# Altium schematic symbol library Infineon Discrete Diode.SchLib: 203 symbols (part 2 of 3)
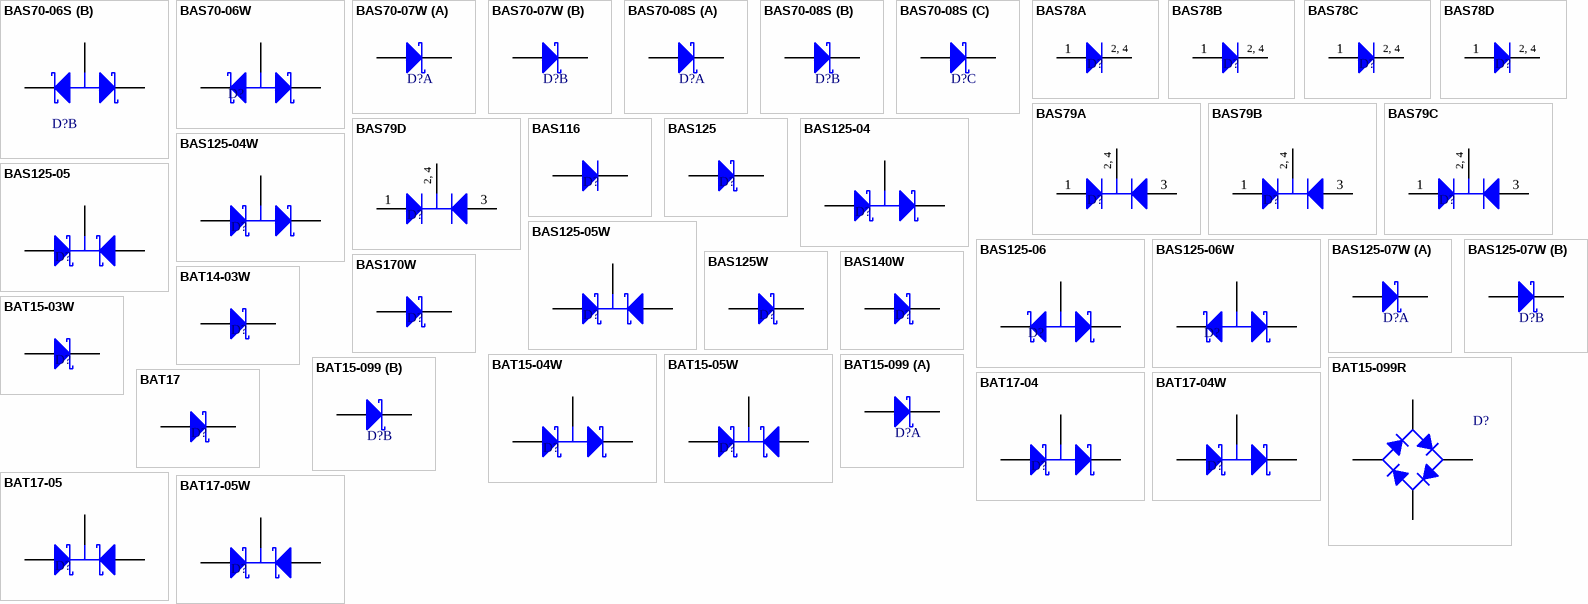
[diagram p7: symbols BAS70-06S to BAT17-05W]

## BAT15-05W
designator D?
Silicon RF Schottky Diode for DBS Mixer Applications up to 12 GHz; Published: 21-Mar-2003; DatasheetDocument: Oct-1999; PackageDocument: Sep-2001; PackageReference: SOT-323; Publisher: Altium Limited; ComponentLink1Description: Manufacturer Link; ComponentLink1URL: http://www.infineon.com/; ComponentLink2Description: Datasheet; ComponentLink2URL: http://www.infineon.com/upload/Document/cmc_upload/documents/009/360/bat15series.pdf
footprint SOT-323 (SOT-323/SC-70; 3 Leads; Body 2.2 x 2.2 mm, inc. leads (LxW max))
simulation model BAT15-05W (SUBCKT)
pins: 1 A1, 2 A2, 3 K

## BAT15-099
designator D?
Silicon Dual RF Schottky Diode for DBS Mixer Applications up to 12GHz; Published: 21-Mar-2003; DatasheetDocument: Oct-1999; PackageDocument: Sep-2000; PackageReference: SOT-143; Publisher: Altium Limited; Code_JEDEC: TO-253-AA; Code_IPC: SOT 143; ComponentLink1Description: Manufacturer Link; ComponentLink1URL: http://www.infineon.com/; ComponentLink2Description: Datasheet; ComponentLink2URL: http://www.infineon.com/upload/Document/cmc_upload/documents/009/361/bat15series_1.pdf
footprint SOT-143 (SOT-143; 4 Leads; Body 3 x 2.6 mm, inc. leads (LxW max))
simulation model BAT15-099 (DIODE)
part A pins: 1 K, 4 A
part B pins: 2 A, 3 K

## BAT15-099R
designator D?
Silicon Crossover Ring Quad RF Schottky Diode; Published: 21-Mar-2003; DatasheetDocument: Oct-1999; PackageDocument: Sep-2000; PackageReference: SOT-143; Publisher: Altium Limited; Code_JEDEC: TO-253-AA; Code_IPC: SOT 143; ComponentLink1Description: Manufacturer Link; ComponentLink1URL: http://www.infineon.com/; ComponentLink2Description: Datasheet; ComponentLink2URL: http://www.infineon.com/upload/Document/cmc_upload/documents/009/362/bat15series_1.pdf
footprint SOT-143 (SOT-143; 4 Leads; Body 3 x 2.6 mm, inc. leads (LxW max))
simulation model BAT15-099R (SUBCKT)
pins: 1 A1/K4, 2 K2/A3, 3 K1/A2, 4 K3/A4

## BAT17
designator D?
Silicon RF Schottky Diode for Mixer Applications in the VHF/UHF Range; Note: Pin 2 is not connected and not drawn.; Published: 21-Mar-2003; DatasheetDocument: Oct-1999; PackageDocument: Sep-2001; PackageReference: SOT-23; Publisher: Altium Limited; ComponentLink1Description: Manufacturer Link; ComponentLink1URL: http://www.infineon.com/; ComponentLink2Description: Datasheet; ComponentLink2URL: http://www.infineon.com/upload/Document/cmc_upload/documents/009/363/bat17series.pdf
footprint SOT-23 (SOT-23; 3 Leads; Body 3.0 x 2.6 mm, inc. leads (LxW max))
simulation model D188 (DIODE)
pins: 1 A, 3 K

## BAT17-04
designator D?
Silicon RF Schottky Diode for Mixer Applications in the VHF/UHF Range; Published: 21-Mar-2003; DatasheetDocument: Oct-1999; PackageDocument: Sep-2001; PackageReference: SOT-23; Publisher: Altium Limited; ComponentLink1Description: Manufacturer Link; ComponentLink1URL: http://www.infineon.com/; ComponentLink2Description: Datasheet; ComponentLink2URL: http://www.infineon.com/upload/Document/cmc_upload/documents/009/363/bat17series.pdf
footprint SOT-23 (SOT-23; 3 Leads; Body 3.0 x 2.6 mm, inc. leads (LxW max))
simulation model BAT17-04 (SUBCKT)
pins: 1 A, 2 K, 3 C

## BAT17-04W
designator D?
Silicon RF Schottky Diode for Mixer Applications in the VHF/UHF Range; Published: 21-Mar-2003; DatasheetDocument: Oct-1999; PackageDocument: Sep-2001; PackageReference: SOT-323; Publisher: Altium Limited; ComponentLink1Description: Manufacturer Link; ComponentLink1URL: http://www.infineon.com/; ComponentLink2Description: Datasheet; ComponentLink2URL: http://www.infineon.com/upload/Document/cmc_upload/documents/009/364/bat17series_1.pdf
footprint SOT-323 (SOT-323/SC-70; 3 Leads; Body 2.2 x 2.2 mm, inc. leads (LxW max))
simulation model BAT17-04W (SUBCKT)
pins: 1 A, 2 K, 3 C

## BAT17-05
designator D?
Silicon RF Schottky Diode for Mixer Applications in the VHF/UHF Range; Published: 21-Mar-2003; DatasheetDocument: Oct-1999; PackageDocument: Sep-2001; PackageReference: SOT-23; Publisher: Altium Limited; ComponentLink1Description: Manufacturer Link; ComponentLink1URL: http://www.infineon.com/; ComponentLink2Description: Datasheet; ComponentLink2URL: http://www.infineon.com/upload/Document/cmc_upload/documents/009/363/bat17series.pdf
footprint SOT-23 (SOT-23; 3 Leads; Body 3.0 x 2.6 mm, inc. leads (LxW max))
simulation model BAT17-05 (SUBCKT)
pins: 1 A1, 2 A2, 3 K

## BAT17-05W
designator D?
Silicon RF Schottky Diode for Mixer Applications in the VHF/UHF Range; Published: 21-Mar-2003; DatasheetDocument: Oct-1999; PackageDocument: Sep-2001; PackageReference: SOT-323; Publisher: Altium Limited; ComponentLink1Description: Manufacturer Link; ComponentLink1URL: http://www.infineon.com/; ComponentLink2Description: Datasheet; ComponentLink2URL: http://www.infineon.com/upload/Document/cmc_upload/documents/009/364/bat17series_1.pdf
footprint SOT-323 (SOT-323/SC-70; 3 Leads; Body 2.2 x 2.2 mm, inc. leads (LxW max))
simulation model BAT17-05W (SUBCKT)
pins: 1 A1, 2 A2, 3 K

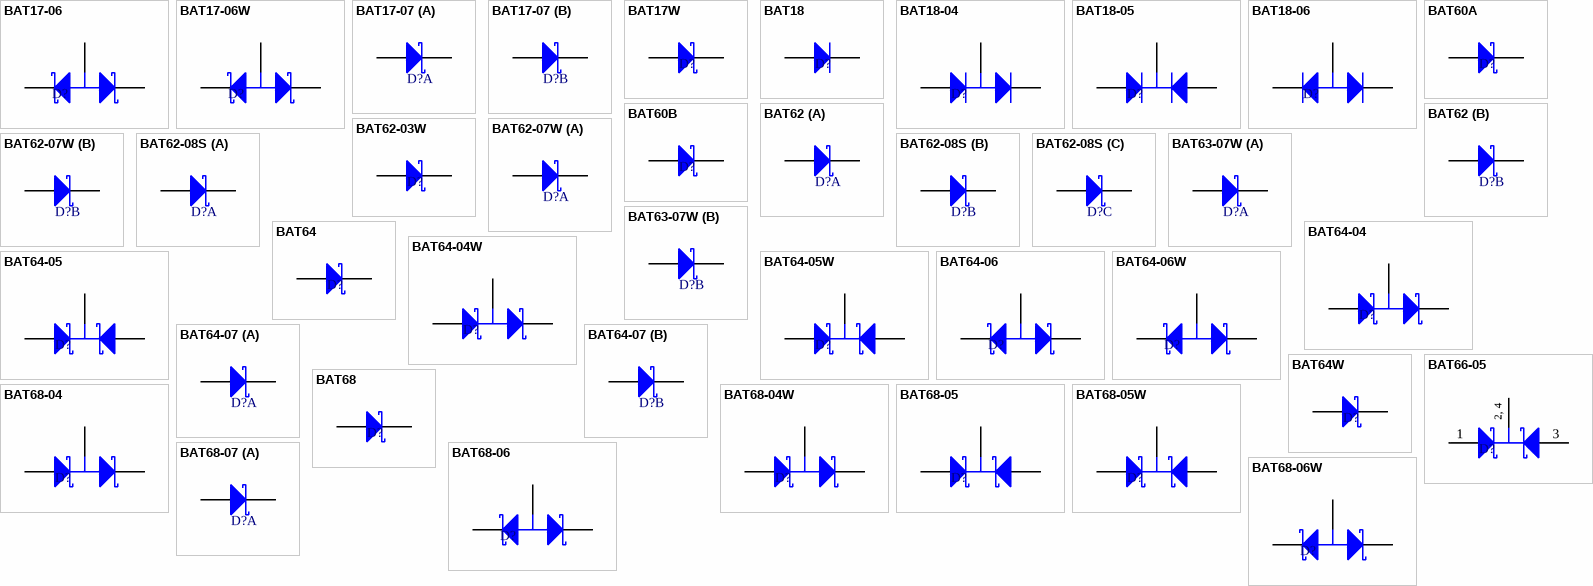
[diagram p3: symbols BAT17-06 to BAT68-07]

## BAT17-06
designator D?
Silicon RF Schottky Diode for Mixer Applications in the VHF/UHF Range; Published: 21-Mar-2003; DatasheetDocument: Oct-1999; PackageDocument: Sep-2001; PackageReference: SOT-23; Publisher: Altium Limited; ComponentLink1Description: Manufacturer Link; ComponentLink1URL: http://www.infineon.com/
footprint SOT-23 (SOT-23; 3 Leads; Body 3.0 x 2.6 mm, inc. leads (LxW max))
simulation model BAT17-06 (SUBCKT)
pins: 1 K1, 2 K2, 3 A

## BAT17-06W
designator D?
Silicon RF Schottky Diode for Mixer Applications in the VHF/UHF Range; Published: 21-Mar-2003; DatasheetDocument: Oct-1999; PackageDocument: Sep-2001; PackageReference: SOT-323; Publisher: Altium Limited; ComponentLink1Description: Manufacturer Link; ComponentLink1URL: http://www.infineon.com/; ComponentLink2Description: Datasheet; ComponentLink2URL: http://www.infineon.com/upload/Document/cmc_upload/documents/009/364/bat17series_1.pdf
footprint SOT-323 (SOT-323/SC-70; 3 Leads; Body 2.2 x 2.2 mm, inc. leads (LxW max))
simulation model BAT17-06W (SUBCKT)
pins: 1 K1, 2 K2, 3 A

## BAT17-07
designator D?
Silicon RF Schottky Diode for Mixer Applications in the VHF/UHF Range; Published: 21-Mar-2003; DatasheetDocument: Oct-1999; PackageDocument: Sep-2000; PackageReference: SOT-143; Publisher: Altium Limited; Code_JEDEC: TO-253-AA; Code_IPC: SOT 143; ComponentLink1Description: Manufacturer Link; ComponentLink1URL: http://www.infineon.com/; ComponentLink2Description: Datasheet; ComponentLink2URL: http://www.infineon.com/upload/Document/cmc_upload/documents/009/365/bat17series_1.pdf
footprint SOT-143 (SOT-143; 4 Leads; Body 3 x 2.6 mm, inc. leads (LxW max))
simulation model D188 (DIODE)
part A pins: 1 K, 4 A
part B pins: 2 K, 3 A

## BAT17W
designator D?
Silicon RF Schottky Diode for Mixer Applications in the VHF/UHF Range; Note: Pin 2 is not connected and not drawn.; Published: 21-Mar-2003; DatasheetDocument: Oct-1999; PackageDocument: Sep-2001; PackageReference: SOT-323; Publisher: Altium Limited; ComponentLink1Description: Manufacturer Link; ComponentLink1URL: http://www.infineon.com/
footprint SOT-323 (SOT-323/SC-70; 3 Leads; Body 2.2 x 2.2 mm, inc. leads (LxW max))
simulation model D188 (DIODE)
pins: 1 A, 3 K

## BAT18
designator D?
Low-Loss RF Switching Diode; Note: Pin 2 is not connected and not drawn.; Published: 21-Mar-2003; DatasheetDocument: Oct-1999; PackageDocument: Sep-2001; PackageReference: SOT-23; Publisher: Altium Limited; ComponentLink1Description: Manufacturer Link; ComponentLink1URL: http://www.infineon.com/
footprint SOT-23 (SOT-23; 3 Leads; Body 3.0 x 2.6 mm, inc. leads (LxW max))
simulation model BAT18 (DIODE)
pins: 1 A, 3 K

## BAT18-04
designator D?
Low-Loss RF Switching Diode; Published: 21-Mar-2003; DatasheetDocument: Oct-1999; PackageDocument: Sep-2001; PackageReference: SOT-23; Publisher: Altium Limited; ComponentLink1Description: Manufacturer Link; ComponentLink1URL: http://www.infineon.com/; ComponentLink2Description: Datasheet; ComponentLink2URL: http://www.infineon.com/upload/Document/cmc_upload/documents/080/128/bat18series_1.pdf
footprint SOT-23 (SOT-23; 3 Leads; Body 3.0 x 2.6 mm, inc. leads (LxW max))
simulation model BAT18-04 (SUBCKT)
pins: 1 A, 2 K, 3 C

## BAT18-05
designator D?
Low-Loss RF Switching Diode; Published: 21-Mar-2003; DatasheetDocument: Oct-1999; PackageDocument: Sep-2001; PackageReference: SOT-23; Publisher: Altium Limited; ComponentLink1Description: Manufacturer Link; ComponentLink1URL: http://www.infineon.com/; ComponentLink2Description: Datasheet; ComponentLink2URL: http://www.infineon.com/upload/Document/cmc_upload/documents/080/129/bat18series_1.pdf
footprint SOT-23 (SOT-23; 3 Leads; Body 3.0 x 2.6 mm, inc. leads (LxW max))
simulation model BAT18-05 (SUBCKT)
pins: 1 A1, 2 A2, 3 K

## BAT18-06
designator D?
Low-Loss RF Switching Diode; Published: 21-Mar-2003; DatasheetDocument: Oct-1999; PackageDocument: Sep-2001; PackageReference: SOT-23; Publisher: Altium Limited; ComponentLink1Description: Manufacturer Link; ComponentLink1URL: http://www.infineon.com/
footprint SOT-23 (SOT-23; 3 Leads; Body 3.0 x 2.6 mm, inc. leads (LxW max))
simulation model BAT18-06 (SUBCKT)
pins: 1 K1, 2 K2, 3 A

## BAT60A
designator D?
Silicon AF Schottky Rectifier Diode with Extreme Low VF Drop; Published: 21-Mar-2003; LatestRevisionDate: 19-Mar-2004; LatestRevisionNote: Silkscreen size reduced.; DatasheetDocument: Jan-1999; PackageDocument: Sep-2000; PackageReference: SOD-323; Publisher: Altium Limited; ComponentLink1Description: Manufacturer Link; ComponentLink1URL: http://www.infineon.com/; ComponentLink2Description: Datasheet; ComponentLink2URL: http://www.infineon.com/upload/Document/cmc_upload/documents/081/715/bat60aseries_1.pdf
footprint SOD-323 (SOD-323/SC-76; 2 Leads; Body 1.7 x 1.3 mm, (LxW))
simulation model BAT60A (DIODE)
pins: 1 K, 2 A

## BAT60B
designator D?
Silicon AF Schottky Rectifier Diode; Published: 21-Mar-2003; LatestRevisionDate: 19-Mar-2004; LatestRevisionNote: Silkscreen size reduced.; DatasheetDocument: Jan-1999; PackageDocument: Sep-2000; PackageReference: SOD-323; Publisher: Altium Limited; ComponentLink1Description: Manufacturer Link; ComponentLink1URL: http://www.infineon.com/; ComponentLink2Description: Datasheet; ComponentLink2URL: http://www.infineon.com/upload/Document/cmc_upload/documents/009/394/bat60bseries.pdf
footprint SOD-323 (SOD-323/SC-76; 2 Leads; Body 1.7 x 1.3 mm, (LxW))
pins: 1 K, 2 A

## BAT62
designator D?
Low-Barrier Silicon RF Schottky Diode for Detectors; Published: 21-Mar-2003; DatasheetDocument: Oct-1999; PackageDocument: Sep-2000; PackageReference: SOT-143; Publisher: Altium Limited; Code_JEDEC: TO-253-AA; Code_IPC: SOT 143; ComponentLink1Description: Manufacturer Link; ComponentLink1URL: http://www.infineon.com/; ComponentLink2Description: Datasheet; ComponentLink2URL: http://www.infineon.com/upload/Document/cmc_upload/documents/081/718/bat62series_1.pdf
footprint SOT-143 (SOT-143; 4 Leads; Body 3 x 2.6 mm, inc. leads (LxW max))
simulation model BAT62 (DIODE)
part A pins: 1 A, 4 K
part B pins: 2 K, 3 A

## BAT62-03W
designator D?
Low-Barrier Silicon RF Schottky Diode for Detectors; Published: 21-Mar-2003; LatestRevisionDate: 19-Mar-2004; LatestRevisionNote: Silkscreen size reduced.; DatasheetDocument: Oct-1999; PackageDocument: Sep-2000; PackageReference: SOD-323; Publisher: Altium Limited; ComponentLink1Description: Manufacturer Link; ComponentLink1URL: http://www.infineon.com/; ComponentLink2Description: Datasheet; ComponentLink2URL: http://www.infineon.com/upload/Document/cmc_upload/documents/081/718/bat62series_1.pdf
footprint SOD-323 (SOD-323/SC-76; 2 Leads; Body 1.7 x 1.3 mm, (LxW))
simulation model BAT62 (DIODE)
pins: 1 K, 2 A

## BAT62-07W
designator D?
Low-Barrier Silicon RF Schottky Diode for Detectors; Published: 21-Mar-2003; DatasheetDocument: Oct-1999; PackageDocument: Sep-2000; PackageReference: SOT-343; Publisher: Altium Limited; ComponentLink1Description: Manufacturer Link; ComponentLink1URL: http://www.infineon.com/; ComponentLink2Description: Datasheet; ComponentLink2URL: http://www.infineon.com/upload/Document/cmc_upload/documents/081/862/bat62series.pdf
footprint SOT-343 (SOT-343; 4 Leads; Body 2.2 x 2.2 mm, inc. leads (LxW max))
simulation model BAT62 (DIODE)
part A pins: 1 K, 4 A
part B pins: 2 K, 3 A

## BAT62-08S
designator D?
Low-Barrier Silicon RF Schottky Diode Array; Published: 21-Mar-2003; DatasheetDocument: Oct-1999; PackageDocument: Sep-2000; PackageReference: SOT-363; Publisher: Altium Limited; ComponentLink1Description: Manufacturer Link; ComponentLink1URL: http://www.infineon.com/
footprint SOT-363 (SOT-363/SC-88; 6 Leads; Body 2.2 x 2.2 mm, inc. leads (LxW max))
simulation model BAT62 (DIODE)
part A pins: 1 A, 6 K
part B pins: 2 A, 5 K
part C pins: 3 A, 4 K

## BAT63-07W
designator D?
Low-Barrier Silicon RF Schottky Diode for Detectors; Published: 21-Mar-2003; DatasheetDocument: Aug-1999; PackageDocument: Sep-2000; PackageReference: SOT-343; Publisher: Altium Limited; ComponentLink1Description: Manufacturer Link; ComponentLink1URL: http://www.infineon.com/; ComponentLink2Description: Datasheet; ComponentLink2URL: http://www.infineon.com/upload/Document/cmc_upload/documents/081/719/bat63series.pdf
footprint SOT-343 (SOT-343; 4 Leads; Body 2.2 x 2.2 mm, inc. leads (LxW max))
simulation model BAT63 (DIODE)
part A pins: 1 K, 4 A
part B pins: 2 K, 3 A

## BAT64
designator D?
Silicon AF Schottky Diode for Low-Loss, Fast-Recovery, Meter Protection; Note: Pin 2 is not connected and not drawn.; Published: 21-Mar-2003; DatasheetDocument: Oct-1999; PackageDocument: Sep-2001; PackageReference: SOT-23; Publisher: Altium Limited; ComponentLink1Description: Manufacturer Link; ComponentLink1URL: http://www.infineon.com/; ComponentLink2Description: Datasheet; ComponentLink2URL: http://www.infineon.com/upload/Document/cmc_upload/documents/095/902/bat64series.pdf
footprint SOT-23 (SOT-23; 3 Leads; Body 3.0 x 2.6 mm, inc. leads (LxW max))
simulation model BAT64 (DIODE)
pins: 1 A, 3 K

## BAT64-04
designator D?
Silicon AF Schottky Diode for Low-Loss, Fast-Recovery, Meter Protection; Published: 21-Mar-2003; DatasheetDocument: Oct-1999; PackageDocument: Sep-2001; PackageReference: SOT-23; Publisher: Altium Limited; ComponentLink1Description: Manufacturer Link; ComponentLink1URL: http://www.infineon.com/; ComponentLink2Description: Datasheet; ComponentLink2URL: http://www.infineon.com/upload/Document/cmc_upload/documents/009/395/bat64series.pdf
footprint SOT-23 (SOT-23; 3 Leads; Body 3.0 x 2.6 mm, inc. leads (LxW max))
simulation model BAT64-04 (SUBCKT)
pins: 1 A, 2 K, 3 C

## BAT64-04W
designator D?
Silicon AF Schottky Diode for Low-Loss, Fast-Recovery, Meter Protection; Published: 21-Mar-2003; DatasheetDocument: Oct-1999; PackageDocument: Sep-2001; PackageReference: SOT-323; Publisher: Altium Limited; ComponentLink1Description: Manufacturer Link; ComponentLink1URL: http://www.infineon.com/; ComponentLink2Description: Datasheet; ComponentLink2URL: http://www.infineon.com/upload/Document/cmc_upload/documents/009/395/bat64series.pdf
footprint SOT-323 (SOT-323/SC-70; 3 Leads; Body 2.2 x 2.2 mm, inc. leads (LxW max))
simulation model BAT64-04W (SUBCKT)
pins: 1 A, 2 K, 3 C

## BAT64-05
designator D?
Silicon AF Schottky Diode for Low-Loss, Fast-Recovery, Meter Protection; Published: 21-Mar-2003; DatasheetDocument: Oct-1999; PackageDocument: Sep-2001; PackageReference: SOT-23; Publisher: Altium Limited; ComponentLink1Description: Manufacturer Link; ComponentLink1URL: http://www.infineon.com/; ComponentLink2Description: Datasheet; ComponentLink2URL: http://www.infineon.com/upload/Document/cmc_upload/documents/009/395/bat64series.pdf
footprint SOT-23 (SOT-23; 3 Leads; Body 3.0 x 2.6 mm, inc. leads (LxW max))
simulation model BAT64-05 (SUBCKT)
pins: 1 A1, 2 A2, 3 K

## BAT64-05W
designator D?
Silicon AF Schottky Diode for Low-Loss, Fast-Recovery, Meter Protection; Published: 21-Mar-2003; DatasheetDocument: Oct-1999; PackageDocument: Sep-2001; PackageReference: SOT-323; Publisher: Altium Limited; ComponentLink1Description: Manufacturer Link; ComponentLink1URL: http://www.infineon.com/; ComponentLink2Description: Datasheet; ComponentLink2URL: http://www.infineon.com/upload/Document/cmc_upload/documents/009/397/bat64series_1.pdf
footprint SOT-323 (SOT-323/SC-70; 3 Leads; Body 2.2 x 2.2 mm, inc. leads (LxW max))
simulation model BAT64-05W (SUBCKT)
pins: 1 A1, 2 A2, 3 K

## BAT64-06
designator D?
Silicon AF Schottky Diode for Low-Loss, Fast-Recovery, Meter Protection; Published: 21-Mar-2003; DatasheetDocument: Oct-1999; PackageDocument: Sep-2001; PackageReference: SOT-23; Publisher: Altium Limited; ComponentLink1Description: Manufacturer Link; ComponentLink1URL: http://www.infineon.com/; ComponentLink2Description: Datasheet; ComponentLink2URL: http://www.infineon.com/upload/Document/cmc_upload/documents/009/395/bat64series.pdf
footprint SOT-23 (SOT-23; 3 Leads; Body 3.0 x 2.6 mm, inc. leads (LxW max))
simulation model BAT64-06 (SUBCKT)
pins: 1 K1, 2 K2, 3 A

## BAT64-06W
designator D?
Silicon AF Schottky Diode for Low-Loss, Fast-Recovery, Meter Protection; Published: 21-Mar-2003; DatasheetDocument: Oct-1999; PackageDocument: Sep-2001; PackageReference: SOT-323; Publisher: Altium Limited; ComponentLink1Description: Manufacturer Link; ComponentLink1URL: http://www.infineon.com/; ComponentLink2Description: Datasheet; ComponentLink2URL: http://www.infineon.com/upload/Document/cmc_upload/documents/009/397/bat64series_1.pdf
footprint SOT-323 (SOT-323/SC-70; 3 Leads; Body 2.2 x 2.2 mm, inc. leads (LxW max))
simulation model BAT64-06W (SUBCKT)
pins: 1 K1, 2 K2, 3 A

## BAT64-07
designator D?
Silicon AF Schottky Diode for Low-Loss, Fast-Recovery, Meter Protection; Published: 21-Mar-2003; DatasheetDocument: Oct-1999; PackageDocument: Sep-2000; PackageReference: SOT-143; Publisher: Altium Limited; Code_JEDEC: TO-253-AA; Code_IPC: SOT 143; ComponentLink1Description: Manufacturer Link; ComponentLink1URL: http://www.infineon.com/
footprint SOT-143 (SOT-143; 4 Leads; Body 3 x 2.6 mm, inc. leads (LxW max))
simulation model BAT64 (DIODE)
part A pins: 1 K, 4 A
part B pins: 2 K, 3 A

## BAT64W
designator D?
Silicon AF Schottky Diode for Low-Loss, Fast-Recovery, Meter Protection; Note: Pin 2 is not connected and not drawn.; Published: 21-Mar-2003; DatasheetDocument: Oct-1999; PackageDocument: Sep-2001; PackageReference: SOT-323; Publisher: Altium Limited; ComponentLink1Description: Manufacturer Link; ComponentLink1URL: http://www.infineon.com/
footprint SOT-323 (SOT-323/SC-70; 3 Leads; Body 2.2 x 2.2 mm, inc. leads (LxW max))
simulation model BAT64 (DIODE)
pins: 1 A, 3 K

## BAT66-05
designator D?
Low-Power Silicon AF Schottky Rectifier Diode; Published: 21-Mar-2003; DatasheetDocument: Oct-1999; PackageDocument: Sep-2000; PackageReference: SOT-223; Publisher: Altium Limited; ComponentLink1Description: Manufacturer Link; ComponentLink1URL: http://www.infineon.com/; ComponentLink2Description: Datasheet; ComponentLink2URL: http://www.infineon.com/upload/Document/cmc_upload/documents/009/399/bat66series.pdf
footprint SOT-223 (SOT-223/SC-73; 4 Leads; Body 6.7 x 7.3 mm, inc. leads (LxW max))
simulation model BAT66-05 (SUBCKT)
pins: 1 A1, 2 K, 3 A2, 4 K
text: 2, 4

## BAT68
designator D?
Silicon RF Schottky Diode for Mixer Applications in the VHF/UHF Range; Note: Pin 2 is not connected and not drawn.; Published: 21-Mar-2003; DatasheetDocument: Oct-1999; PackageDocument: Sep-2001; PackageReference: SOT-23; Publisher: Altium Limited; ComponentLink1Description: Manufacturer Link; ComponentLink1URL: http://www.infineon.com/; ComponentLink2Description: Datasheet; ComponentLink2URL: http://www.infineon.com/upload/Document/cmc_upload/documents/010/8144/bat68series.pdf
footprint SOT-23 (SOT-23; 3 Leads; Body 3.0 x 2.6 mm, inc. leads (LxW max))
simulation model BAT68 (DIODE)
pins: 1 A, 3 K

## BAT68-04
designator D?
Silicon RF Schottky Diode for Mixer Applications in the VHF/UHF Range; Published: 21-Mar-2003; DatasheetDocument: Oct-1999; PackageDocument: Sep-2001; PackageReference: SOT-23; Publisher: Altium Limited; ComponentLink1Description: Manufacturer Link; ComponentLink1URL: http://www.infineon.com/; ComponentLink2Description: Datasheet; ComponentLink2URL: http://www.infineon.com/upload/Document/cmc_upload/documents/009/366/bat68series.pdf
footprint SOT-23 (SOT-23; 3 Leads; Body 3.0 x 2.6 mm, inc. leads (LxW max))
simulation model BAT68-04 (SUBCKT)
pins: 1 A, 2 K, 3 C

## BAT68-04W
designator D?
Silicon RF Schottky Diode for Mixer Applications in the VHF/UHF Range; Published: 21-Mar-2003; DatasheetDocument: Oct-1999; PackageDocument: Sep-2001; PackageReference: SOT-323; Publisher: Altium Limited; ComponentLink1Description: Manufacturer Link; ComponentLink1URL: http://www.infineon.com/; ComponentLink2Description: Datasheet; ComponentLink2URL: http://www.infineon.com/upload/Document/cmc_upload/documents/029/454/bat68series_1.pdf
footprint SOT-323 (SOT-323/SC-70; 3 Leads; Body 2.2 x 2.2 mm, inc. leads (LxW max))
simulation model BAT68-04W (SUBCKT)
pins: 1 A, 2 K, 3 C

## BAT68-05
designator D?
Silicon RF Schottky Diode for Mixer Applications in the VHF/UHF Range; Published: 21-Mar-2003; DatasheetDocument: Oct-1999; PackageDocument: Sep-2001; PackageReference: SOT-23; Publisher: Altium Limited; ComponentLink1Description: Manufacturer Link; ComponentLink1URL: http://www.infineon.com/
footprint SOT-23 (SOT-23; 3 Leads; Body 3.0 x 2.6 mm, inc. leads (LxW max))
simulation model BAT68-05 (SUBCKT)
pins: 1 A1, 2 A2, 3 K

## BAT68-05W
designator D?
Silicon RF Schottky Diode for Mixer Applications in the VHF/UHF Range; Published: 21-Mar-2003; DatasheetDocument: Oct-1999; PackageDocument: Sep-2001; PackageReference: SOT-323; Publisher: Altium Limited; ComponentLink1Description: Manufacturer Link; ComponentLink1URL: http://www.infineon.com/
footprint SOT-323 (SOT-323/SC-70; 3 Leads; Body 2.2 x 2.2 mm, inc. leads (LxW max))
simulation model BAT68-05W (SUBCKT)
pins: 1 A1, 2 A2, 3 K

## BAT68-06
designator D?
Silicon RF Schottky Diode for Mixer Applications in the VHF/UHF Range; Published: 21-Mar-2003; DatasheetDocument: Oct-1999; PackageDocument: Sep-2001; PackageReference: SOT-23; Publisher: Altium Limited; ComponentLink1Description: Manufacturer Link; ComponentLink1URL: http://www.infineon.com/; ComponentLink2Description: Datasheet; ComponentLink2URL: http://www.infineon.com/upload/Document/cmc_upload/documents/009/366/bat68series.pdf
footprint SOT-23 (SOT-23; 3 Leads; Body 3.0 x 2.6 mm, inc. leads (LxW max))
simulation model BAT68-06 (SUBCKT)
pins: 1 K1, 2 K2, 3 A

## BAT68-06W
designator D?
Silicon RF Schottky Diode for Mixer Applications in the VHF/UHF Range; Published: 21-Mar-2003; DatasheetDocument: Oct-1999; PackageDocument: Sep-2001; PackageReference: SOT-323; Publisher: Altium Limited; ComponentLink1Description: Manufacturer Link; ComponentLink1URL: http://www.infineon.com/; ComponentLink2Description: Datasheet; ComponentLink2URL: http://www.infineon.com/upload/Document/cmc_upload/documents/029/457/bat68series_1.pdf
footprint SOT-323 (SOT-323/SC-70; 3 Leads; Body 2.2 x 2.2 mm, inc. leads (LxW max))
simulation model BAT68-06W (SUBCKT)
pins: 1 K1, 2 K2, 3 A

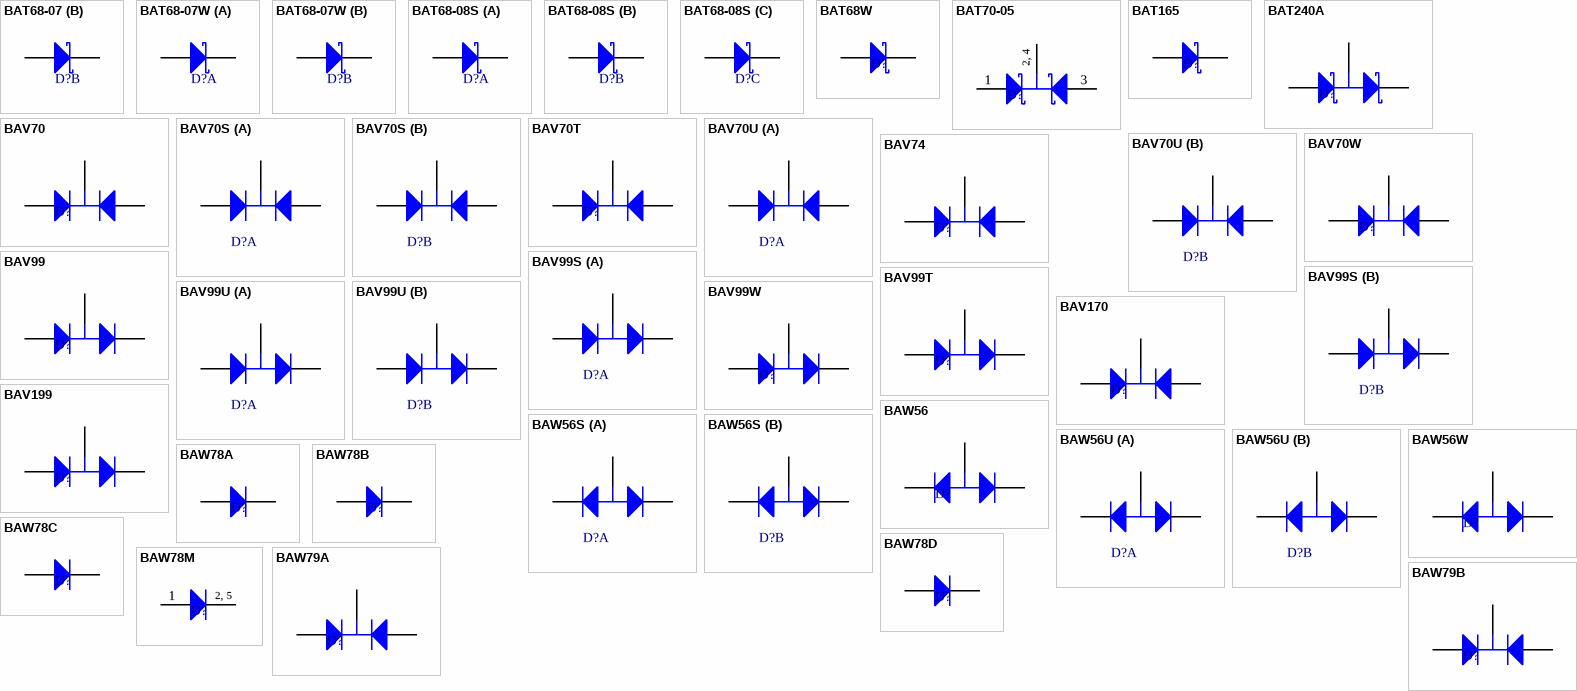
[diagram p4: symbols BAT68-07 to BAW79B]

## BAT68-07
designator D?
Silicon RF Schottky Diode for Mixer Applications in the VHF/UHF Range; Published: 21-Mar-2003; DatasheetDocument: Oct-1999; PackageDocument: Sep-2000; PackageReference: SOT-143; Publisher: Altium Limited; Code_JEDEC: TO-253-AA; Code_IPC: SOT 143; ComponentLink1Description: Manufacturer Link; ComponentLink1URL: http://www.infineon.com/
footprint SOT-143 (SOT-143; 4 Leads; Body 3 x 2.6 mm, inc. leads (LxW max))
simulation model BAT68 (DIODE)
part A pins: 1 K, 4 A
part B pins: 2 K, 3 A

## BAT68-07W
designator D?
Silicon RF Schottky Diode for Mixer Applications in the VHF/UHF Range; Published: 21-Mar-2003; DatasheetDocument: Oct-1999; PackageDocument: Sep-2000; PackageReference: SOT-343; Publisher: Altium Limited; ComponentLink1Description: Manufacturer Link; ComponentLink1URL: http://www.infineon.com/; ComponentLink2Description: Datasheet; ComponentLink2URL: http://www.infineon.com/upload/Document/cmc_upload/documents/009/369/bat68series_1.pdf
footprint SOT-343 (SOT-343; 4 Leads; Body 2.2 x 2.2 mm, inc. leads (LxW max))
simulation model BAT68 (DIODE)
part A pins: 1 K, 4 A
part B pins: 2 K, 3 A

## BAT68-08S
designator D?
Silicon RF Schottky Diode Array for Mixer Applications in the VHF/UHF Range; Published: 21-Mar-2003; DatasheetDocument: Oct-1999; PackageDocument: Sep-2000; PackageReference: SOT-363; Publisher: Altium Limited; ComponentLink1Description: Manufacturer Link; ComponentLink1URL: http://www.infineon.com/; ComponentLink2Description: Datasheet; ComponentLink2URL: http://www.infineon.com/upload/Document/cmc_upload/documents/009/370/bat68series.pdf
footprint SOT-363 (SOT-363/SC-88; 6 Leads; Body 2.2 x 2.2 mm, inc. leads (LxW max))
simulation model BAT68 (DIODE)
part A pins: 1 A, 6 K
part B pins: 2 A, 5 K
part C pins: 3 A, 4 K

## BAT68W
designator D?
Silicon RF Schottky Diode for Mixer Applications in the VHF/UHF Range; Note: Pin 2 is not connected and not drawn.; Published: 21-Mar-2003; DatasheetDocument: Oct-1999; PackageDocument: Sep-2001; PackageReference: SOT-323; Publisher: Altium Limited; ComponentLink1Description: Manufacturer Link; ComponentLink1URL: http://www.infineon.com/
footprint SOT-323 (SOT-323/SC-70; 3 Leads; Body 2.2 x 2.2 mm, inc. leads (LxW max))
simulation model BAT68 (DIODE)
pins: 1 A, 3 K

## BAT70-05
designator D?
Silicon AF Schottky Diode with Parallel Connection for Maximum IF; Published: 21-Mar-2003; DatasheetDocument: Oct-1999; PackageDocument: Sep-2000; PackageReference: SOT-223; Publisher: Altium Limited; ComponentLink1Description: Manufacturer Link; ComponentLink1URL: http://www.infineon.com/
footprint SOT-223 (SOT-223/SC-73; 4 Leads; Body 6.7 x 7.3 mm, inc. leads (LxW max))
pins: 1 A1, 2 K, 3 A2, 4 K
text: 2, 4

## BAT165
designator D?
Silicon AF Schottky Rectifier Diode; Published: 21-Mar-2003; LatestRevisionDate: 19-Mar-2004; LatestRevisionNote: Silkscreen size reduced.; DatasheetDocument: Oct-1999; PackageDocument: Sep-2000; PackageReference: SOD-323; Publisher: Altium Limited; ComponentLink1Description: Manufacturer Link; ComponentLink1URL: http://www.infineon.com/; ComponentLink2Description: Datasheet; ComponentLink2URL: http://www.infineon.com/upload/Document/cmc_upload/documents/009/391/bat165series_1.pdf
footprint SOD-323 (SOD-323/SC-76; 2 Leads; Body 1.7 x 1.3 mm, (LxW))
simulation model BAT165 (DIODE)
pins: 1 K, 2 A

## BAT240A
designator D?
Silicon AF Schottky Rectifier Diode; Published: 21-Mar-2003; DatasheetDocument: Oct-1999; PackageDocument: Sep-2001; PackageReference: SOT-23; Publisher: Altium Limited; ComponentLink1Description: Manufacturer Link; ComponentLink1URL: http://www.infineon.com/; ComponentLink2Description: Datasheet; ComponentLink2URL: http://www.infineon.com/upload/Document/cmc_upload/documents/009/392/bat240series_1.pdf
footprint SOT-23 (SOT-23; 3 Leads; Body 3.0 x 2.6 mm, inc. leads (LxW max))
simulation model BAT240A (SUBCKT)
pins: 1 C, 2 K, 3 A

## BAV70
designator D?
Silicon Switching Diode Array with Common Cathode for High-Speed Switching; Published: 21-Mar-2003; DatasheetDocument: Oct-1999; PackageDocument: Sep-2001; PackageReference: SOT-23; Publisher: Altium Limited; ComponentLink1Description: Manufacturer Link; ComponentLink1URL: http://www.infineon.com/; ComponentLink2Description: Datasheet; ComponentLink2URL: http://www.infineon.com/upload/Document/cmc_upload/documents/080/865/bav70series.pdf
footprint SOT-23 (SOT-23; 3 Leads; Body 3.0 x 2.6 mm, inc. leads (LxW max))
simulation model BAV70 (SUBCKT)
pins: 1 A1, 2 A2, 3 K

## BAV70S
designator D?
Silicon Switching Diode Array with Common Cathode for High-Speed Switching; Published: 21-Mar-2003; DatasheetDocument: Oct-1999; PackageDocument: Sep-2000; PackageReference: SOT-363; Publisher: Altium Limited; ComponentLink1Description: Manufacturer Link; ComponentLink1URL: http://www.infineon.com/; ComponentLink2Description: Datasheet; ComponentLink2URL: http://www.infineon.com/upload/Document/cmc_upload/documents/080/867/bav70series_1.pdf
footprint SOT-363 (SOT-363/SC-88; 6 Leads; Body 2.2 x 2.2 mm, inc. leads (LxW max))
simulation model BAV70 (SUBCKT)
part A pins: 1 A1, 2 A2, 6 K
part B pins: 3 K, 4 A1, 5 A2

## BAV70T
designator D?
Silicon Switching Diode Array with Common Cathode for High-Speed Switching; Published: 21-Mar-2003; DatasheetDocument: Oct-1999; PackageDocument: Sep-2001; PackageReference: SC-75; Publisher: Altium Limited; ComponentLink1Description: Manufacturer Link; ComponentLink1URL: http://www.infineon.com/; ComponentLink2Description: Datasheet; ComponentLink2URL: http://www.infineon.com/upload/Document/cmc_upload/documents/062/644/bav70series.pdf
footprint SC-75 (SOT-416/SC-90/SC-75; 3 Leads; Body 1.8 x 1.8 mm, inc. leads (LxW max))
simulation model BAV70 (SUBCKT)
pins: 1 A1, 2 A2, 3 K

## BAV70U
designator D?
Silicon Switching Diode Array with Common Cathode for High-Speed Switching; Published: 21-Mar-2003; DatasheetDocument: Oct-1999; PackageDocument: Sep-2000; PackageReference: SC-74; Publisher: Altium Limited; ComponentLink1Description: Manufacturer Link; ComponentLink1URL: http://www.infineon.com/; ComponentLink2Description: Datasheet; ComponentLink2URL: http://www.infineon.com/upload/Document/cmc_upload/documents/062/644/bav70series.pdf
footprint SC-74 (SOT-457/SC-74; 6 Leads; Body 3.1 x 2.6 mm, inc. leads (LxW max))
simulation model BAV70 (SUBCKT)
part A pins: 1 A1, 2 A2, 6 K
part B pins: 3 K, 4 A1, 5 A2

## BAV70W
designator D?
Silicon Switching Diode Array with Common Cathode for High-Speed Switching; Published: 21-Mar-2003; DatasheetDocument: Oct-1999; PackageDocument: Sep-2001; PackageReference: SOT-323; Publisher: Altium Limited; ComponentLink1Description: Manufacturer Link; ComponentLink1URL: http://www.infineon.com/
footprint SOT-323 (SOT-323/SC-70; 3 Leads; Body 2.2 x 2.2 mm, inc. leads (LxW max))
simulation model BAV70 (SUBCKT)
pins: 1 A1, 2 A2, 3 K

## BAV74
designator D?
Silicon Switching Diode Array with Common Cathode for High-Speed Switching; Published: 21-Mar-2003; DatasheetDocument: Oct-1999; PackageDocument: Sep-2001; PackageReference: SOT-23; Publisher: Altium Limited; ComponentLink1Description: Manufacturer Link; ComponentLink1URL: http://www.infineon.com/
footprint SOT-23 (SOT-23; 3 Leads; Body 3.0 x 2.6 mm, inc. leads (LxW max))
simulation model BAV74 (SUBCKT)
pins: 1 A1, 2 A2, 3 K

## BAV99
designator D?
Silicon Switching Diode Array for High-Speed Switching; Published: 21-Mar-2003; DatasheetDocument: Oct-1999; PackageDocument: Sep-2001; PackageReference: SOT-23; Publisher: Altium Limited; ComponentLink1Description: Manufacturer Link; ComponentLink1URL: http://www.infineon.com/; ComponentLink2Description: Datasheet; ComponentLink2URL: http://www.infineon.com/upload/Document/cmc_upload/documents/080/631/bav99series_1.pdf
footprint SOT-23 (SOT-23; 3 Leads; Body 3.0 x 2.6 mm, inc. leads (LxW max))
simulation model BAV99 (SUBCKT)
pins: 1 A, 2 K, 3 C

## BAV99S
designator D?
Silicon Switching Diode Array for High-Speed Switching; Published: 21-Mar-2003; DatasheetDocument: Oct-1999; PackageDocument: Sep-2000; PackageReference: SOT-363; Publisher: Altium Limited; ComponentLink1Description: Manufacturer Link; ComponentLink1URL: http://www.infineon.com/; ComponentLink2Description: Datasheet; ComponentLink2URL: http://www.infineon.com/upload/Document/cmc_upload/documents/080/785/bav99series.pdf
footprint SOT-363 (SOT-363/SC-88; 6 Leads; Body 2.2 x 2.2 mm, inc. leads (LxW max))
simulation model BAV99 (SUBCKT)
part A pins: 1 A, 2 K, 6 C
part B pins: 3 C, 4 A, 5 K

## BAV99T
designator D?
Silicon Switching Diode for High-Speed Switching; Published: 21-Mar-2003; DatasheetDocument: Oct-1999; PackageDocument: Sep-2001; PackageReference: SC-75; Publisher: Altium Limited; ComponentLink1Description: Manufacturer Link; ComponentLink1URL: http://www.infineon.com/; ComponentLink2Description: Datasheet; ComponentLink2URL: http://www.infineon.com/upload/Document/cmc_upload/documents/080/799/bav99series_1.pdf
footprint SC-75 (SOT-416/SC-90/SC-75; 3 Leads; Body 1.8 x 1.8 mm, inc. leads (LxW max))
simulation model BAV99 (SUBCKT)
pins: 1 A, 2 K, 3 C

## BAV99U
designator D?
Silicon Switching Diode Array for High-Speed Switching; Published: 21-Mar-2003; DatasheetDocument: Oct-1999; PackageDocument: Sep-2000; PackageReference: SC-74; Publisher: Altium Limited; ComponentLink1Description: Manufacturer Link; ComponentLink1URL: http://www.infineon.com/; ComponentLink2Description: Datasheet; ComponentLink2URL: http://www.infineon.com/upload/Document/cmc_upload/documents/080/798/bav99series_1.pdf
footprint SC-74 (SOT-457/SC-74; 6 Leads; Body 3.1 x 2.6 mm, inc. leads (LxW max))
simulation model BAV99 (SUBCKT)
part A pins: 1 A, 2 K, 6 C
part B pins: 3 C, 4 A, 5 K

## BAV99W
designator D?
Silicon Switching Diode Array for High-Speed Switching; Published: 21-Mar-2003; DatasheetDocument: Oct-1999; PackageDocument: Sep-2001; PackageReference: SOT-323; Publisher: Altium Limited; ComponentLink1Description: Manufacturer Link; ComponentLink1URL: http://www.infineon.com/; ComponentLink2Description: Datasheet; ComponentLink2URL: http://www.infineon.com/upload/Document/cmc_upload/documents/080/784/bav99series.pdf
footprint SOT-323 (SOT-323/SC-70; 3 Leads; Body 2.2 x 2.2 mm, inc. leads (LxW max))
simulation model BAV99 (SUBCKT)
pins: 1 A, 2 K, 3 C

## BAV170
designator D?
Silicon Low-Leakage Diode Array with Common Cathode; Published: 8-Jun-2000; DatasheetDocument: Oct-1999; PackageDocument: Sep-2001; PackageReference: SOT-23; Publisher: Altium Limited; ComponentLink1Description: Manufacturer Link; ComponentLink1URL: http://www.infineon.com/; ComponentLink2Description: Datasheet; ComponentLink2URL: http://www.infineon.com/upload/Document/cmc_upload/documents/009/440/bav170series_1.pdf
footprint SOT-23 (SOT-23; 3 Leads; Body 3.0 x 2.6 mm, inc. leads (LxW max))
simulation model BAV170 (SUBCKT)
pins: 1 A1, 2 A2, 3 K

## BAV199
designator D?
Silicon Low-Leakage Diode Array connected in series; Published: 8-Jun-2000; DatasheetDocument: Oct-1999; PackageDocument: Sep-2001; PackageReference: SOT-23; Publisher: Altium Limited; ComponentLink1Description: Manufacturer Link; ComponentLink1URL: http://www.infineon.com/; ComponentLink2Description: Datasheet; ComponentLink2URL: http://www.infineon.com/upload/Document/cmc_upload/documents/009/441/bav199series_1.pdf
footprint SOT-23 (SOT-23; 3 Leads; Body 3.0 x 2.6 mm, inc. leads (LxW max))
simulation model BAV199 (SUBCKT)
pins: 1 A, 2 K, 3 C

## BAW56
designator D?
Silicon Switching Diode Array with Common Anode, High-Speed Switching; Published: 8-Jun-2000; DatasheetDocument: Oct-1999; PackageDocument: Sep-2001; PackageReference: SOT-23; Publisher: Altium Limited; ComponentLink1Description: Manufacturer Link; ComponentLink1URL: http://www.infineon.com/; ComponentLink2Description: Datasheet; ComponentLink2URL: http://www.infineon.com/upload/Document/cmc_upload/documents/080/851/baw56series.pdf
footprint SOT-23 (SOT-23; 3 Leads; Body 3.0 x 2.6 mm, inc. leads (LxW max))
simulation model BAW56 (SUBCKT)
pins: 1 K1, 2 K2, 3 A

## BAW56S
designator D?
Silicon Switching Diode Array with Common Anode for High-Speed Switching; Published: 21-Mar-2003; DatasheetDocument: Oct-1999; PackageDocument: Sep-2000; PackageReference: SOT-363; Publisher: Altium Limited; ComponentLink1Description: Manufacturer Link; ComponentLink1URL: http://www.infineon.com/; ComponentLink2Description: Datasheet; ComponentLink2URL: http://www.infineon.com/upload/Document/cmc_upload/documents/080/854/baw56series.pdf
footprint SOT-363 (SOT-363/SC-88; 6 Leads; Body 2.2 x 2.2 mm, inc. leads (LxW max))
simulation model BAW56 (SUBCKT)
part A pins: 1 K1, 2 K2, 6 A
part B pins: 3 A, 4 K1, 5 K2

## BAW56U
designator D?
Silicon Switching Diode Array with Common Anode for High-Speed Switching; Published: 21-Mar-2003; DatasheetDocument: Oct-1999; PackageDocument: Sep-2000; PackageReference: SC-74; Publisher: Altium Limited; ComponentLink1Description: Manufacturer Link; ComponentLink1URL: http://www.infineon.com/; ComponentLink2Description: Datasheet; ComponentLink2URL: http://www.infineon.com/upload/Document/cmc_upload/documents/080/855/baw56series.pdf
footprint SC-74 (SOT-457/SC-74; 6 Leads; Body 3.1 x 2.6 mm, inc. leads (LxW max))
simulation model BAW56 (SUBCKT)
part A pins: 1 K1, 2 K2, 6 A
part B pins: 3 A, 4 K1, 5 K2

## BAW56W
designator D?
Silicon Switching Diode Array with Common Anode for High-Speed Switching; Published: 21-Mar-2003; DatasheetDocument: Oct-1999; PackageDocument: Sep-2001; PackageReference: SOT-323; Publisher: Altium Limited; ComponentLink1Description: Manufacturer Link; ComponentLink1URL: http://www.infineon.com/
footprint SOT-323 (SOT-323/SC-70; 3 Leads; Body 2.2 x 2.2 mm, inc. leads (LxW max))
simulation model BAW56 (SUBCKT)
pins: 1 K1, 2 K2, 3 A

## BAW78A
designator D?
Silicon Switching Diode with High Breakdown Voltage; Note: Pin 3 is not connected and not drawn.; Published: 21-Mar-2003; DatasheetDocument: Oct-1999; PackageDocument: Sep-2000; PackageReference: SOT-89; Publisher: Altium Limited; ComponentLink1Description: Manufacturer Link; ComponentLink1URL: http://www.infineon.com/
footprint SOT-89 (SOT-89; Body 4.6 x 4.25 mm, inc. leads (LxW max))
pins: 1 A, 2 K

## BAW78B
designator D?
Silicon Switching Diode with High Breakdown Voltage; Note: Pin 3 is not connected and not drawn.; Published: 21-Mar-2003; DatasheetDocument: Oct-1999; PackageDocument: Sep-2000; PackageReference: SOT-89; Publisher: Altium Limited; ComponentLink1Description: Manufacturer Link; ComponentLink1URL: http://www.infineon.com/
footprint SOT-89 (SOT-89; Body 4.6 x 4.25 mm, inc. leads (LxW max))
pins: 1 A, 2 K

## BAW78C
designator D?
Silicon Switching Diode with High Breakdown Voltage; Note: Pin 3 is not connected and not drawn.; Published: 21-Mar-2003; DatasheetDocument: Oct-1999; PackageDocument: Sep-2000; PackageReference: SOT-89; Publisher: Altium Limited; ComponentLink1Description: Manufacturer Link; ComponentLink1URL: http://www.infineon.com/
footprint SOT-89 (SOT-89; Body 4.6 x 4.25 mm, inc. leads (LxW max))
pins: 1 A, 2 K

## BAW78D
designator D?
Silicon Switching Diode with High Breakdown Voltage; Note: Pin 3 is not connected and not drawn.; Published: 21-Mar-2003; DatasheetDocument: Oct-1999; PackageDocument: Sep-2000; PackageReference: SOT-89; Publisher: Altium Limited; ComponentLink1Description: Manufacturer Link; ComponentLink1URL: http://www.infineon.com/
footprint SOT-89 (SOT-89; Body 4.6 x 4.25 mm, inc. leads (LxW max))
simulation model BAW78D (DIODE)
pins: 1 A, 2 K

## BAW78M
designator D?
Silicon Switching Diode with High Breakdown Voltage; Note: Pins 3 and 4 are not connected and not drawn.; Published: 21-Mar-2003; DatasheetDocument: Oct-1999; PackageDocument: Sep-2000; PackageReference: SCT-595; Publisher: Altium Limited; ComponentLink1Description: Manufacturer Link; ComponentLink1URL: http://www.infineon.com/
footprint SCT-595 (Small Outline; 5 Leads; Body 3.1 x 2.6 mm, inc. leads (LxW max))
pins: 1 A, 2 K, 5 K
text: 2, 5

## BAW79A
designator D?
Silicon Switching Diode with Common Cathode and High Breakdown Voltage; Published: 21-Mar-2003; DatasheetDocument: Oct-1999; PackageDocument: Sep-2000; PackageReference: SOT-89; Publisher: Altium Limited; ComponentLink1Description: Manufacturer Link; ComponentLink1URL: http://www.infineon.com/
footprint SOT-89 (SOT-89; Body 4.6 x 4.25 mm, inc. leads (LxW max))
pins: 1 A1, 2 K, 3 A2

## BAW79B
designator D?
Silicon Switching Diode with Common Cathode and High Breakdown Voltage; Published: 21-Mar-2003; DatasheetDocument: Oct-1999; PackageDocument: Sep-2000; PackageReference: SOT-89; Publisher: Altium Limited; ComponentLink1Description: Manufacturer Link; ComponentLink1URL: http://www.infineon.com/
footprint SOT-89 (SOT-89; Body 4.6 x 4.25 mm, inc. leads (LxW max))
pins: 1 A1, 2 K, 3 A2

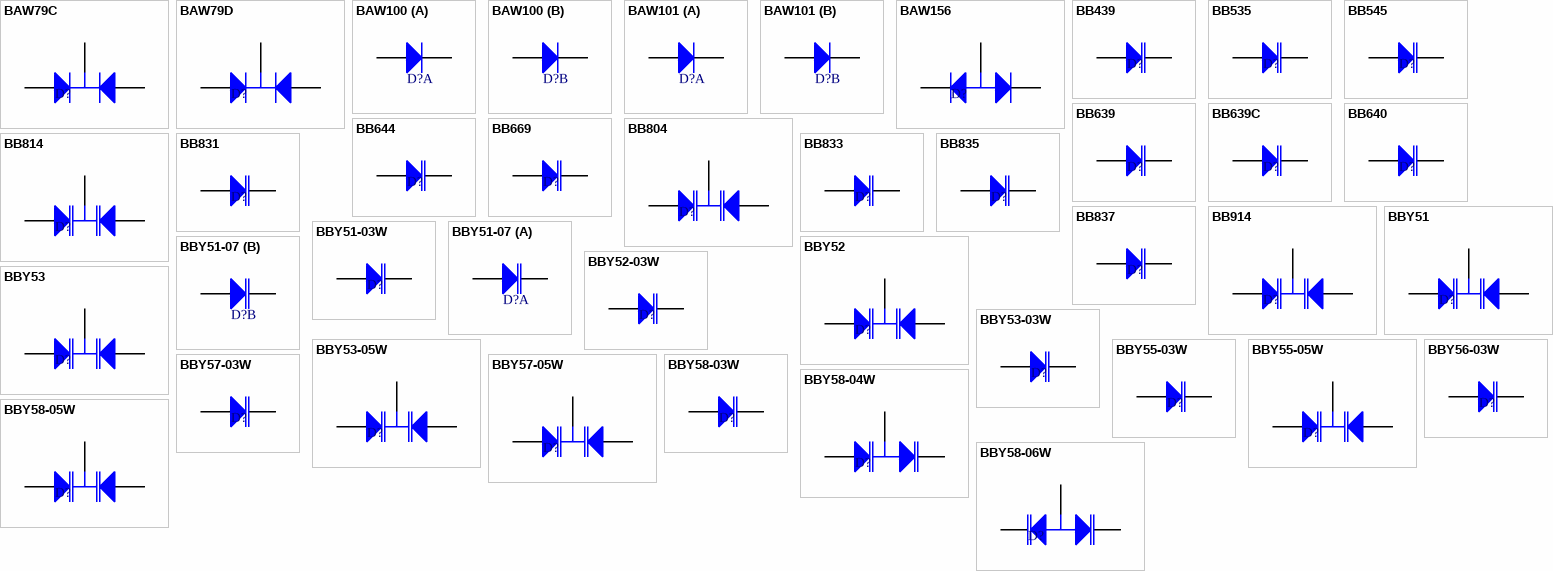
[diagram p5: symbols BAW79C to BBY58-06W]

## BAW79C
designator D?
Silicon Switching Diode with Common Cathode and High Breakdown Voltage; Published: 21-Mar-2003; DatasheetDocument: Oct-1999; PackageDocument: Sep-2000; PackageReference: SOT-89; Publisher: Altium Limited; ComponentLink1Description: Manufacturer Link; ComponentLink1URL: http://www.infineon.com/
footprint SOT-89 (SOT-89; Body 4.6 x 4.25 mm, inc. leads (LxW max))
pins: 1 A1, 2 K, 3 A2

## BAW79D
designator D?
Silicon Switching Diode with Common Cathode and High Breakdown Voltage; Published: 21-Mar-2003; DatasheetDocument: Oct-1999; PackageDocument: Sep-2000; PackageReference: SOT-89; Publisher: Altium Limited; ComponentLink1Description: Manufacturer Link; ComponentLink1URL: http://www.infineon.com/
footprint SOT-89 (SOT-89; Body 4.6 x 4.25 mm, inc. leads (LxW max))
pins: 1 A1, 2 K, 3 A2

## BAW100
designator D?
Silicon Switching Diode Array for High-Speed Switching; Published: 21-Mar-2003; DatasheetDocument: Oct-1999; PackageDocument: Sep-2000; PackageReference: SOT-143; Publisher: Altium Limited; Code_JEDEC: TO-253-AA; Code_IPC: SOT 143; ComponentLink1Description: Manufacturer Link; ComponentLink1URL: http://www.infineon.com/
footprint SOT-143 (SOT-143; 4 Leads; Body 3 x 2.6 mm, inc. leads (LxW max))
simulation model BAW100 (SUBCKT)
part A pins: 1 A, 4 K
part B pins: 2 A, 3 K

## BAW101
designator D?
Silicon Switching Diode Array with Medium-Speed Diodes; Published: 21-Mar-2003; DatasheetDocument: Oct-1999; PackageDocument: Sep-2000; PackageReference: SOT-143; Publisher: Altium Limited; Code_JEDEC: TO-253-AA; Code_IPC: SOT 143; ComponentLink1Description: Manufacturer Link; ComponentLink1URL: http://www.infineon.com/
footprint SOT-143 (SOT-143; 4 Leads; Body 3 x 2.6 mm, inc. leads (LxW max))
simulation model BAW101 (SUBCKT)
part A pins: 1 K, 4 A
part B pins: 2 K, 3 A

## BAW156
designator D?
Silicon Low-Leakage Diode Array with Common Anode; Published: 8-Jun-2000; DatasheetDocument: Oct-1999; PackageDocument: Sep-2001; PackageReference: SOT-23; Publisher: Altium Limited; ComponentLink1Description: Manufacturer Link; ComponentLink1URL: http://www.infineon.com/; ComponentLink2Description: Datasheet; ComponentLink2URL: http://www.infineon.com/upload/Document/cmc_upload/documents/009/442/baw156series_1.pdf
footprint SOT-23 (SOT-23; 3 Leads; Body 3.0 x 2.6 mm, inc. leads (LxW max))
simulation model BAW156 (SUBCKT)
pins: 1 K1, 2 K2, 3 A

## BB439
designator D?
Silicon Variable-Capacitance Diode for VHF Tuned Circuit Applications; Published: 21-Mar-2003; LatestRevisionDate: 19-Mar-2004; LatestRevisionNote: Silkscreen size reduced.; DatasheetDocument: Oct-1999; PackageDocument: Sep-2000; PackageReference: SOD-323; Publisher: Altium Limited; ComponentLink1Description: Manufacturer Link; ComponentLink1URL: http://www.infineon.com/; ComponentLink2Description: Datasheet; ComponentLink2URL: http://www.infineon.com/upload/Document/cmc_upload/documents/009/281/bb439series_1.pdf
footprint SOD-323 (SOD-323/SC-76; 2 Leads; Body 1.7 x 1.3 mm, (LxW))
pins: 1 K, 2 A

## BB535
designator D?
Silicon Variable-Capacitance Diode for UHF and TV/VTR Tuners; Published: 21-Mar-2003; LatestRevisionDate: 19-Mar-2004; LatestRevisionNote: Silkscreen size reduced.; DatasheetDocument: Oct-1999; PackageDocument: Sep-2000; PackageReference: SOD-323; Publisher: Altium Limited; ComponentLink1Description: Manufacturer Link; ComponentLink1URL: http://www.infineon.com/; ComponentLink2Description: Datasheet; ComponentLink2URL: http://www.infineon.com/upload/Document/cmc_upload/documents/009/282/bb535series_bb555series.pdf
footprint SOD-323 (SOD-323/SC-76; 2 Leads; Body 1.7 x 1.3 mm, (LxW))
simulation model BB535 (DIODE)
pins: 1 K, 2 A

## BB545
designator D?
Silicon Tuning Diode for UHF and VHF TV Tuners; Published: 21-Mar-2003; LatestRevisionDate: 19-Mar-2004; LatestRevisionNote: Silkscreen size reduced.; DatasheetDocument: Oct-1999; PackageDocument: Sep-2000; PackageReference: SOD-323; Publisher: Altium Limited; ComponentLink1Description: Manufacturer Link; ComponentLink1URL: http://www.infineon.com/; ComponentLink2Description: Datasheet; ComponentLink2URL: http://www.infineon.com/upload/Document/cmc_upload/documents/009/283/bb545series_bb565series.pdf
footprint SOD-323 (SOD-323/SC-76; 2 Leads; Body 1.7 x 1.3 mm, (LxW))
simulation model BB545 (DIODE)
pins: 1 K, 2 A

## BB639
designator D?
Silicon Variable-Capacitance Diode for Tuning of Extended Frequency Band in VHF TV/VTR Tuners; Published: 21-Mar-2003; LatestRevisionDate: 19-Mar-2004; LatestRevisionNote: Silkscreen size reduced.; DatasheetDocument: Oct-1999; PackageDocument: Sep-2000; PackageReference: SOD-323; Publisher: Altium Limited; ComponentLink1Description: Manufacturer Link; ComponentLink1URL: http://www.infineon.com/; ComponentLink2Description: Datasheet; ComponentLink2URL: http://www.infineon.com/upload/Document/cmc_upload/documents/009/286/bb639ce7906.pdf
footprint SOD-323 (SOD-323/SC-76; 2 Leads; Body 1.7 x 1.3 mm, (LxW))
simulation model BB639 (DIODE)
pins: 1 K, 2 A

## BB639C
designator D?
Silicon Variable-Capacitance Diode for Tuning of Extended Frequency Band in VHF TV/VTR Tuners; Published: 21-Mar-2003; LatestRevisionDate: 19-Mar-2004; LatestRevisionNote: Silkscreen size reduced.; DatasheetDocument: Oct-1999; PackageDocument: Sep-2000; PackageReference: SOD-323; Publisher: Altium Limited; ComponentLink1Description: Manufacturer Link; ComponentLink1URL: http://www.infineon.com/; ComponentLink2Description: Datasheet; ComponentLink2URL: http://www.infineon.com/upload/Document/cmc_upload/documents/009/287/bb639c_bb659cseries.pdf
footprint SOD-323 (SOD-323/SC-76; 2 Leads; Body 1.7 x 1.3 mm, (LxW))
simulation model D349 (DIODE)
pins: 1 K, 2 A

## BB640
designator D?
Silicon Variable-Capacitance Diode for Hyper-Band TV/VTR Tuners; Published: 21-Mar-2003; LatestRevisionDate: 19-Mar-2004; LatestRevisionNote: Silkscreen size reduced.; DatasheetDocument: Oct-1999; PackageDocument: Sep-2000; PackageReference: SOD-323; Publisher: Altium Limited; ComponentLink1Description: Manufacturer Link; ComponentLink1URL: http://www.infineon.com/; ComponentLink2Description: Datasheet; ComponentLink2URL: http://www.infineon.com/upload/Document/cmc_upload/documents/009/288/bb640series.pdf
footprint SOD-323 (SOD-323/SC-76; 2 Leads; Body 1.7 x 1.3 mm, (LxW))
pins: 1 K, 2 A

## BB644
designator D?
Silicon Variable-Capacitance Diode for VHF TV Tuners; Published: 21-Mar-2003; LatestRevisionDate: 19-Mar-2004; LatestRevisionNote: Silkscreen size reduced.; DatasheetDocument: Oct-1999; PackageDocument: Sep-2000; PackageReference: SOD-323; Publisher: Altium Limited; ComponentLink1Description: Manufacturer Link; ComponentLink1URL: http://www.infineon.com/; ComponentLink2Description: Datasheet; ComponentLink2URL: http://www.infineon.com/upload/Document/cmc_upload/documents/009/289/bb644_bb664series_1.pdf
footprint SOD-323 (SOD-323/SC-76; 2 Leads; Body 1.7 x 1.3 mm, (LxW))
pins: 1 K, 2 A

## BB669
designator D?
Silicon Tuning Diode for VHF 2-Band Hyper-Band TV Tuners; Published: 21-Mar-2003; LatestRevisionDate: 19-Mar-2004; LatestRevisionNote: Silkscreen size reduced.; DatasheetDocument: Jul-1998; PackageDocument: Sep-2000; PackageReference: SOD-323; Publisher: Altium Limited; ComponentLink1Description: Manufacturer Link; ComponentLink1URL: http://www.infineon.com/; ComponentLink2Description: Datasheet; ComponentLink2URL: http://www.infineon.com/upload/Document/cmc_upload/documents/009/293/bb669_bb689series.pdf
footprint SOD-323 (SOD-323/SC-76; 2 Leads; Body 1.7 x 1.3 mm, (LxW))
pins: 1 K, 2 A

## BB804
designator D?
Silicon Variable-Capacitance Diode for FM Tuners; Published: 21-Mar-2003; DatasheetDocument: Apr-1999; PackageDocument: Sep-2001; PackageReference: SOT-23; Publisher: Altium Limited; ComponentLink1Description: Manufacturer Link; ComponentLink1URL: http://www.infineon.com/; ComponentLink2Description: Datasheet; ComponentLink2URL: http://www.infineon.com/upload/Document/cmc_upload/documents/009/295/bb804series.pdf
footprint SOT-23 (SOT-23; 3 Leads; Body 3.0 x 2.6 mm, inc. leads (LxW max))
simulation model BB804 (SUBCKT)
pins: 1 A, 2 A, 3 K

## BB814
designator D?
Silicon Variable-Capacitance Diode for FM Tuners; Published: 21-Mar-2003; DatasheetDocument: May-1999; PackageDocument: Sep-2001; PackageReference: SOT-23; Publisher: Altium Limited; ComponentLink1Description: Manufacturer Link; ComponentLink1URL: http://www.infineon.com/; ComponentLink2Description: Datasheet; ComponentLink2URL: http://www.infineon.com/upload/Document/cmc_upload/documents/009/296/bb814series.pdf
footprint SOT-23 (SOT-23; 3 Leads; Body 3.0 x 2.6 mm, inc. leads (LxW max))
simulation model BB814 (SUBCKT)
pins: 1 A, 2 A, 3 K

## BB831
designator D?
Silicon Variable-Capacitance Diode with Frequency Range up to 2GHz; Published: 21-Mar-2003; LatestRevisionDate: 19-Mar-2004; LatestRevisionNote: Silkscreen size reduced.; DatasheetDocument: Oct-1999; PackageDocument: Sep-2000; PackageReference: SOD-323; Publisher: Altium Limited; ComponentLink1Description: Manufacturer Link; ComponentLink1URL: http://www.infineon.com/; ComponentLink2Description: Datasheet; ComponentLink2URL: http://www.infineon.com/upload/Document/cmc_upload/documents/009/297/BB831series.pdf
footprint SOD-323 (SOD-323/SC-76; 2 Leads; Body 1.7 x 1.3 mm, (LxW))
pins: 1 K, 2 A